# Altium schematic symbol library DRV8212DSGR.SchLib: 2 symbols
Pins are listed as number, name and electrical type; pins without a type are passive.

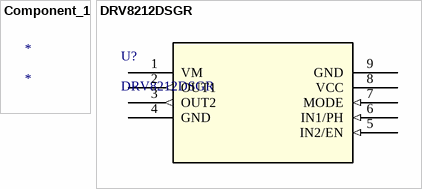
[diagram p0: symbols Component_1 to DRV8212DSGR]

## Component_1
designator *

## DRV8212DSGR
designator U?
12-V, 4-A H-bridge motor driver with auto sleep mode 8-WSON -40 to 125; Manufacturer_Name: Texas Instruments; Copyright: Copyright (C) 2025 Ultra Librarian. All rights reserved.; Manufacturer_Part_Number: DRV8212DSGR; Datasheet: https://www.ti.com/lit/gpn/drv8212; RefDes: RefDes; Type: Type
footprint WSON_212DSGR_TEX
pins: 1 VM, 2 OUT1 (out), 3 OUT2 (out), 4 GND (power), 5 IN2/EN (in), 6 IN1/PH (in), 7 MODE (in), 8 VCC (power), 9 GND (power)